# Altium schematic symbol library GPU.SchLib: 3 symbols
Pins are listed as number, name and electrical type; pins without a type are passive.

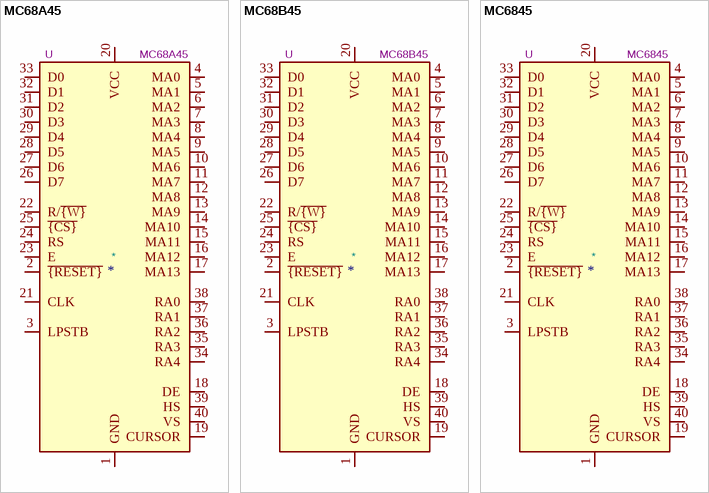
[diagram p0: symbols MC68A45 to MC6845]

## MC68A45
designator *  value MC68A45  Reference: U
ki_keywords: CRT controller; ki_description: CRT Controller 1.5MHz, DIP-40; ki_fp_filters: DIP*W15.24mm*; Footprint: Package_DIP:DIP-40_W15.24mm; Datasheet: http://pdf.datasheetcatalog.com/datasheet_pdf/motorola/MC6845L_and_MC6845P.pdf
pins: 1 GND, 2 ~{{RESET}}, 3 LPSTB, 4 MA0, 5 MA1, 6 MA2, 7 MA3, 8 MA4, 9 MA5, 10 MA6, 11 MA7, 12 MA8, 13 MA9, 14 MA10, 15 MA11, 16 MA12, 17 MA13, 18 DE, 19 CURSOR, 20 VCC, 21 CLK, 22 R/~{{W}}, 23 E, 24 RS, 25 ~{{CS}}, 26 D7, 27 D6, 28 D5, 29 D4, 30 D3, 31 D2, 32 D1, 33 D0, 34 RA4, 35 RA3, 36 RA2, 37 RA1, 38 RA0, 39 HS, 40 VS

## MC68B45
designator *  value MC68B45  Reference: U
ki_keywords: CRT controller; ki_description: CRT Controller 2MHz, DIP-40; ki_fp_filters: DIP*W15.24mm*; Footprint: Package_DIP:DIP-40_W15.24mm; Datasheet: http://pdf.datasheetcatalog.com/datasheet_pdf/motorola/MC6845L_and_MC6845P.pdf
pins: 1 GND, 2 ~{{RESET}}, 3 LPSTB, 4 MA0, 5 MA1, 6 MA2, 7 MA3, 8 MA4, 9 MA5, 10 MA6, 11 MA7, 12 MA8, 13 MA9, 14 MA10, 15 MA11, 16 MA12, 17 MA13, 18 DE, 19 CURSOR, 20 VCC, 21 CLK, 22 R/~{{W}}, 23 E, 24 RS, 25 ~{{CS}}, 26 D7, 27 D6, 28 D5, 29 D4, 30 D3, 31 D2, 32 D1, 33 D0, 34 RA4, 35 RA3, 36 RA2, 37 RA1, 38 RA0, 39 HS, 40 VS

## MC6845
designator *  value MC6845  Reference: U
ki_keywords: CRT controller; ki_description: CRT Controller 1MHz, DIP-40; ki_fp_filters: DIP*W15.24mm*; Footprint: Package_DIP:DIP-40_W15.24mm; Datasheet: http://pdf.datasheetcatalog.com/datasheet_pdf/motorola/MC6845L_and_MC6845P.pdf
pins: 1 GND, 2 ~{{RESET}}, 3 LPSTB, 4 MA0, 5 MA1, 6 MA2, 7 MA3, 8 MA4, 9 MA5, 10 MA6, 11 MA7, 12 MA8, 13 MA9, 14 MA10, 15 MA11, 16 MA12, 17 MA13, 18 DE, 19 CURSOR, 20 VCC, 21 CLK, 22 R/~{{W}}, 23 E, 24 RS, 25 ~{{CS}}, 26 D7, 27 D6, 28 D5, 29 D4, 30 D3, 31 D2, 32 D1, 33 D0, 34 RA4, 35 RA3, 36 RA2, 37 RA1, 38 RA0, 39 HS, 40 VS